# Altium footprint library pcb_lib.PcbLib: 20 footprints (part 2 of 2)
Each footprint in its own frame and in the unit in brackets; x right, y up, seen from the top. Pads: shape width x height; smd on the part's side, far side on the other; paste and mask are expansions set on the pad; w line width, h text height; cw(c..) or ccw(c..) is an arc to the next point about the centre after c.
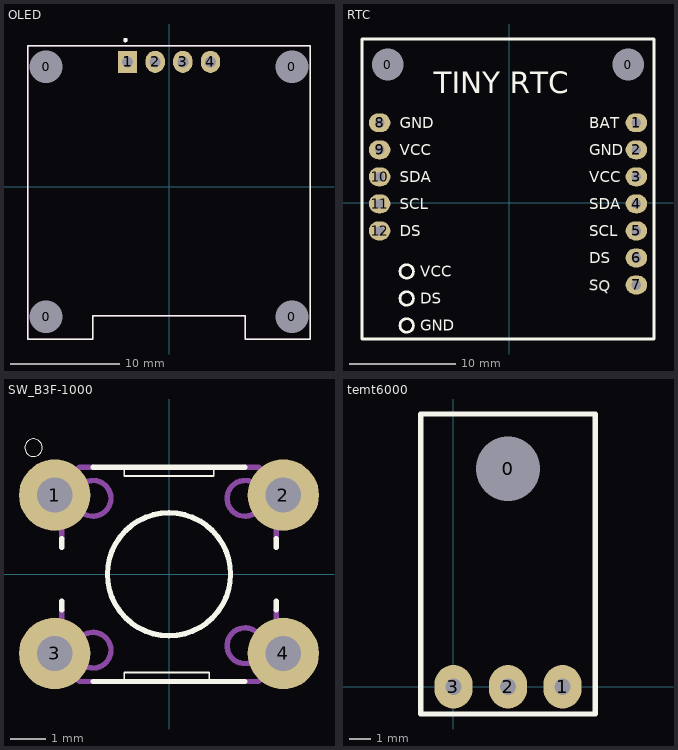
[diagram p1: the footprints below, top view; thin cyan lines are the x and y axes]

## OLED [mil]
height 444.88
pads (8):
  round 60 hole 118.11: 0(-445,-470) 0(-445,435) 0(445,-470) 0(445,435)
  rect 70x80 / inner oval 70x80 / far side rect 70x80 hole 39.37: 1(-150,452.76)
  oval 70x80 hole 39.37: 2(-50,452.76) 3(50,452.76) 4(150,452.76)
Top Overlay:
  circle w7.87: c-157.48,531.5 r3.94
  lines w5: -511.81,-550 -511.81,511.81 511.81,511.81 511.81,-550 275.59,-550 275.59,-465 -275.59,-465 -275.59,-550 -511.81,-550
Mechanical 13:
  circle w7.87: c-157.48,531.5 r3.94
  lines w5: -511.81,-550 -511.81,511.81 511.81,511.81 511.81,-550 275.59,-550 275.59,-465 -275.59,-465 -275.59,-550 -511.81,-550
3D body "step_temp.STEP": height 222.83, standoff -222.05, extent -511.81,-511.81 511.81,511.81

## RTC [mil]
pads (14):
  round 60 hole 118.11: 0(-450,510) 0(440,510)
  oval 80x70 hole 36 paste+0 mask+2: 1(470,295) 2(470,195) 3(470,95) 4(470,-5) 5(470,-105) 6(470,-205) 7(470,-305) 8(-480,295) 9(-480,195) 10(-480,95) 11(-480,-5) 12(-480,-105)
Top Overlay:
  circle w10: c-380,-255 r25
  circle w10: c-380,-355 r25
  circle w10: c-380,-455 r25
  lines w10: -545,-505 535,-505 535,605 -545,605 -545,-505
  text "TINY RTC" at -280,405 h80
  text "BAT" at 295,275 h40
  text "GND" at 295,175 h40
  text "VCC" at 295,75 h40
  text "SDA" at 295,-25 h40
  text "SCL" at 295,-125 h40
  text "DS" at 295,-225 h40
  text "SQ" at 293.6,-324.95 h40
  text "DS" at -330,-375 h40
  text "GND" at -330,-475 h40
  text "VCC" at -330,-275 h40
  text "DS" at -405,-125 h40
  text "GND" at -405,275 h40
  text "VCC" at -405,175 h40
  text "SDA" at -405,75 h40
  text "SCL" at -405,-25 h40
Mechanical 15:
  lines w0.1: -0.01,-2.49 0.01,-2.51
3D body "HW-111_RTCmodule_DS1307.STEP": height 417.32, standoff 15.75, extent -546.34,-515 536.34,607.05

## SW_B3F-1000 [mm]
pads (4):
  round 2.032 hole 1: 1(-3.25,2.25) 2(3.25,2.25) 3(-3.25,-2.25) 4(3.25,-2.25)
Top Overlay:
  circle w0: c-3.85,3.6 r0.25
  circle w0.152: c0,0 r1.75
  lines w0.051: -1.27,-3.048 -1.27,-2.794 1.143,-2.794 1.143,-3.048 ; -1.27,3.048 -1.27,2.794 1.27,2.794 1.27,3.048
  lines w0.152: -3.048,-1.016 -3.048,-0.762 ; -3.048,0.762 -3.048,1.016 ; -2.159,-3.048 -1.27,-3.048 1.143,-3.048 2.159,-3.048 ; -2.159,3.048 -1.27,3.048 1.27,3.048 2.159,3.048 ; 3.048,-1.016 3.048,-0.762 ; 3.048,0.762 3.048,1.016
Mechanical 13:
  circle w0.152: c-2.159,2.159 r0.508
  circle w0.152: c2.159,2.159 r0.508
  circle w0.152: c2.159,-2.032 r0.508
  circle w0.152: c-2.159,-2.159 r0.508
  lines w0.152: -3.048,-1.016 -3.048,-2.54 -2.54,-3.048 -2.159,-3.048 ; -3.048,1.016 -3.048,2.54 -2.54,3.048 -2.159,3.048 ; 2.159,-3.048 2.54,-3.048 3.048,-2.54 3.048,-1.016 ; 2.159,3.048 2.54,3.048 3.048,2.54 3.048,1.016
3D body "B3F-1000--3DModel-STEP-418109.STEP": height 4.3, standoff -3.5, extent -3.85,-3.048 3.85,2.952

## temt6000 [mil]
pads (4):
  round 60 hole 118.11: 0(100,400)
  oval 70x80 hole 30: 1(200,0) 2(100,0) 3(0,0)
Top Overlay:
  lines w10: -60,-50 -60,500 260,500 260,-50 -60,-50
3D body "TEMT6000 v2.step": height 102.76, standoff 0, extent -57.48,-50 257.48,501.18